# EAGLE library part LPC936 (library freebuslpc)
C51 Based Microcontroller LPC936 ADC and 16kbyte Flash
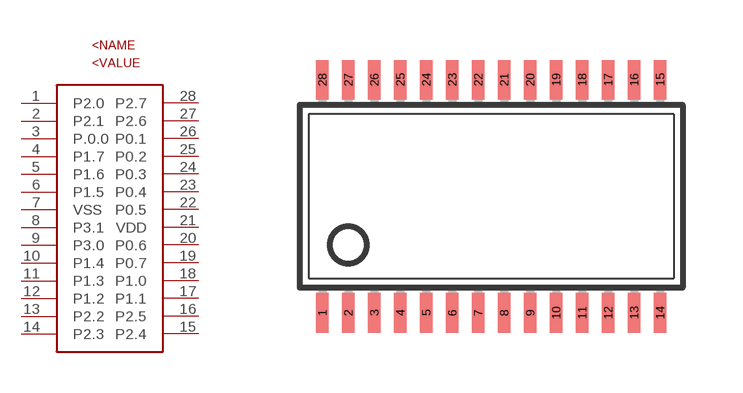
[diagram p0: symbol with the pads of TSSOP28; footprint TSSOP28]

Designator prefix -

## LPC936TSSOP28  [TSSOP28]
1  P2.0
2  P2.1
3  P.0.0
4  P1.7
5  P1.6
6  P1.5
7  VSS
8  P3.1
9  P3.0
10  P1.4
11  P1.3
12  P1.2
13  P2.2
14  P2.3
15  P2.4
16  P2.5
17  P1.1
18  P1.0
19  P0.7
20  P0.6
21  VDD
22  P0.5
23  P0.4
24  P0.3
25  P0.2
26  P0.1
27  P2.6
28  P2.7

## Footprint TSSOP28 (pad centres in mm)
28-pin Thin Shrink Small Outline Package
smd 0.305 x 0.991: 1 -4.225,-2.918; 2 -3.575,-2.918; 3 -2.925,-2.918; 4 -2.275,-2.918; 5 -1.625,-2.918; 6 -0.975,-2.918; 7 -0.325,-2.918; 8 0.325,-2.918; 9 0.975,-2.918; 10 1.625,-2.918; 11 2.275,-2.918; 12 2.925,-2.918; 13 3.575,-2.918; 14 4.225,-2.918; 15 4.225,2.918; 16 3.575,2.918; 17 2.925,2.918; 18 2.275,2.918; 19 1.625,2.918; 20 0.975,2.918; 21 0.325,2.918; 22 -0.325,2.918; 23 -0.975,2.918; 24 -1.625,2.918; 25 -2.275,2.918; 26 -2.925,2.918; 27 -3.575,2.918; 28 -4.225,2.918